# Altium footprint library Connectors.PcbLib: 9 footprints
Each footprint in its own frame and in the unit in brackets; x right, y up, seen from the top. Pads: shape width x height; smd on the part's side, far side on the other; paste and mask are expansions set on the pad; w line width, h text height; cw(c..) or ccw(c..) is an arc to the next point about the centre after c.
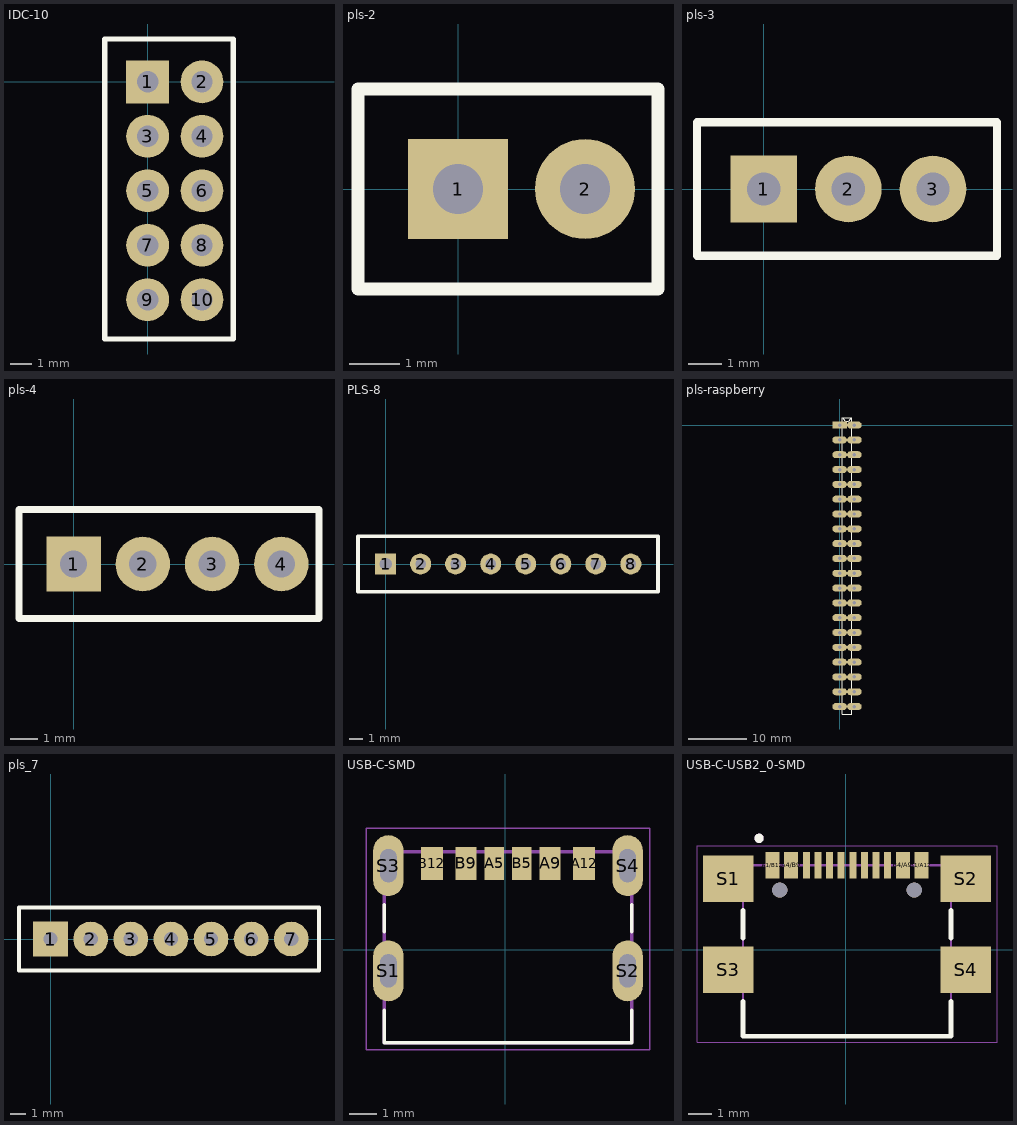
[diagram p0: the footprints below, top view; thin cyan lines are the x and y axes]

## IDC-10 [mm]
pads (10):
  rect 2x2 hole 1: 1(0,0)
  round 2 hole 1: 2(2.54,0) 3(0,-2.54) 4(2.54,-2.54) 5(0,-5.08) 6(2.54,-5.08) 7(0,-7.62) 8(2.54,-7.62) 9(0,-10.16) 10(2.54,-10.16)
Top Overlay:
  lines w0.254: -2,-12 4,-12 4,2 -2,2 -2,-12
3D body "IDC-10.SLDPRT": height 9.75, standoff -2.95, extent -3.2,-15.3 6.15,5.1

## pls-2 [mm] "штырьевой разьем"
pads (2):
  rect 2x2 hole 1: 1(0,0)
  round 2 hole 1: 2(2.54,0)
Top Overlay:
  lines w0.254: -2,-2 4,-2 4,2 -2,2 -2,-2

## pls-3 [mm] "штырьевой разьем"
pads (3):
  rect 2x2 hole 1: 1(0,0)
  round 2 hole 1: 2(2.54,0) 3(5.08,0)
Top Overlay:
  lines w0.254: -2,-2 -2,2 7,2 7,-2 -2,-2

## pls-4 [mm] "штырьевой разьем"
pads (4):
  rect 2x2 hole 1: 1(0,0)
  round 2 hole 1: 2(2.54,0) 3(5.08,0) 4(7.62,0)
Top Overlay:
  lines w0.254: -2,-2 -2,2 9,2 9,-2 -2,-2

## PLS-8 [mil]
pads (8):
  rect 60x60 hole 35.43: 1(0,0)
  round 60 hole 30: 2(100,0) 3(200,0) 4(300,0) 5(400,0) 6(500,0) 7(600,0) 8(700,0)
Top Overlay:
  lines w10: -78.74,-78.74 -78.74,78.74 777.56,78.74 777.56,-78.74 -78.74,-78.74

## pls-raspberry [mm]
pads (40):
  rect 2.5x1.2 hole 0.6: 1(0,0)
  oval 2.5x1.2 hole 0.6: 2(0,-2.54) 3(0,-5.08) 4(0,-7.62) 5(0,-10.16) 6(0,-12.7) 7(0,-15.24) 8(0,-17.78) 9(0,-20.32) 10(0,-22.86) 11(0,-25.4) 12(0,-27.94) 13(0,-30.48) 14(0,-33.02) 15(0,-35.56) 16(0,-38.1) 17(0,-40.64) 18(0,-43.18) 19(0,-45.72) 20(0,-48.26) 21(2.54,-48.26) 22(2.54,-45.72) 23(2.54,-43.18) 24(2.54,-40.64) 25(2.54,-38.1) 26(2.54,-35.56) 27(2.54,-33.02) 28(2.54,-30.48) 29(2.54,-27.94) 30(2.54,-25.4) 31(2.54,-22.86) 32(2.54,-20.32) 33(2.54,-17.78) 34(2.54,-15.24) 35(2.54,-12.7) 36(2.54,-10.16) 37(2.54,-7.62) 38(2.54,-5.08) 39(2.54,-2.54) 40(2.54,0)
Top Overlay:
  lines w0.2: 0.455,-49.53 0.455,1.27 1.905,1.27 cw(c1.27,1.27) 0.635,1.27 2.085,1.27 2.085,-49.53 0.455,-49.53

## pls_7 [mm] "штырьевой разьем"
pads (7):
  rect 2.2x2.2 hole 0.9: 1(0,0)
  round 2.2 hole 0.9: 2(2.54,0) 3(5.08,0) 4(7.62,0) 5(10.16,0) 6(12.7,0) 7(15.24,0)
Top Overlay:
  lines w0.254: -2,-2 17,-2 17,2 -2,2 -2,-2

## USB-C-SMD [mm] "Сигнальные линии не используются, только дляпередачи питания."
pads (10):
  rect 0.7x1.2 smd: A5(-0.396,3.121) B5(0.604,3.121)
  rect 0.76x1.2 smd: A9(1.624,3.121) B9(-1.416,3.121)
  rect 0.8x1.2 smd: A12(2.854,3.121) B12(-2.646,3.121)
  oval 1.1x2.2 hole 0.6 slot 1.2 at 90 deg: S1(-4.216,-0.759) S2(4.424,-0.759) S3(-4.216,3.041) S4(4.424,3.041)
Top Overlay:
  lines w0.127: -4.366,-2.179 -4.366,-3.359 4.574,-3.359 4.574,-2.179 ; -4.366,0.661 -4.366,1.621 ; 4.574,0.661 4.574,1.621
Mechanical 13:
  lines w0.127: -4.366,-3.359 -4.366,3.541 4.574,3.541 4.574,-3.359 -4.366,-3.359
Mechanical 15:
  lines w0.05: -5.016,-3.609 5.224,-3.609 5.224,4.391 -5.016,4.391 -5.016,-3.609
3D body "usb-c usb2_0.STEP": height 3.26, standoff -1.9, extent -4.39,-3.325 4.55,3.575

## USB-C-USB2_0-SMD [mm]
pads (18):
  rect 0.6x1.15 smd: A1/B12(-3.154,3.631) A4/B9(-2.354,3.631) B1/A12(3.246,3.631) B4/A9(2.446,3.631)
  rect 0.3x1.15 smd: A5(-1.204,3.631) A6(-0.204,3.631) A7(0.296,3.631) A8(1.296,3.631) B5(1.796,3.631) B6(0.796,3.631) B7(-0.704,3.631) B8(-1.704,3.631)
  rect 2.18x2 smd: S1(-5.064,3.056) S2(5.156,3.056) S3(-5.064,-0.874) S4(5.156,-0.874)
  round 0.65 hole 0.65 unplated: ""(-2.844,2.556) ""(2.936,2.556)
Top Overlay:
  circle w0.2: c-3.734,4.786 r0.1
  lines w0.2: -4.424,-2.234 -4.424,-3.724 4.516,-3.724 4.516,-2.234 ; -4.424,0.486 -4.424,1.696 ; 4.516,0.486 4.516,1.696
Mechanical 13:
  circle w0.2: c-3.734,4.786 r0.1
  lines w0.1: -4.424,-3.724 -4.424,3.626 4.516,3.626 4.516,-3.724 -4.424,-3.724
Mechanical 15:
  lines w0.05: -6.404,-3.974 6.496,-3.974 6.496,4.456 -6.404,4.456 -6.404,-3.974
3D body "step_temp.STEP": height 3.26, standoff -0.63, extent -5.604,-3.724 5.696,3.976